# EAGLE library part DRV8825 (library X893)
STEPPER MOTOR CONTROLLER IC http://www.ti.com/product/drv8825
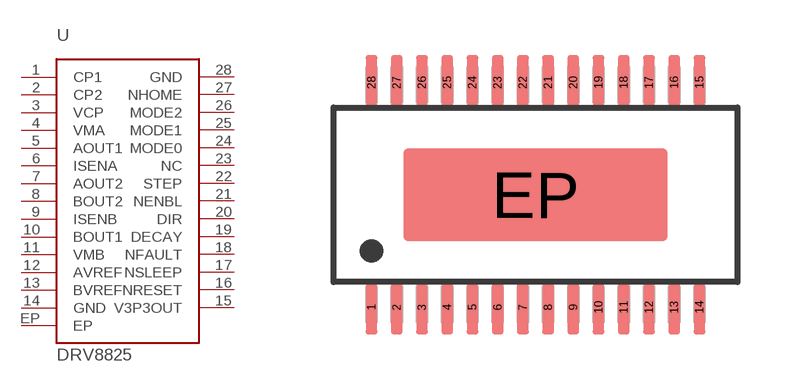
[diagram p187: symbol with the pads of SSOP28EP; footprint SSOP28EP]

Designator prefix U

## DRV8825  [SSOP28EP]
1  CP1  pas
2  CP2  pas
3  VCP  pas
4  VMA  pas
5  AOUT1  pas
6  ISENA  pas
7  AOUT2  pwr
8  BOUT2  pas
9  ISENB  pas
10  BOUT1  pas
11  VMB  pas
12  AVREF  pas
13  BVREF  pas
14  GND  pwr
15  V3P3OUT
16  NRESET  in
17  NSLEEP  in
18  NFAULT  oc
19  DECAY  in
20  DIR  in
21  NENBL  in
22  STEP  in
23  NC  nc
24  MODE0  in
25  MODE1  in
26  MODE2  in
27  NHOME  oc
28  GND  pwr
EP  EP  pwr

## Footprint SSOP28EP (pad centres in mm)
Small Shrink Outline Package
smd 0.3 x 1.4: 1 -4.225,-2.9; 2 -3.575,-2.9; 3 -2.925,-2.9; 4 -2.275,-2.9; 5 -1.625,-2.9; 6 -0.975,-2.9; 7 -0.325,-2.9; 8 0.325,-2.9; 9 0.975,-2.9; 10 1.625,-2.9; 11 2.275,-2.9; 12 2.925,-2.9; 13 3.575,-2.9; 14 4.225,-2.9; 15 4.225,2.9; 16 3.575,2.9; 17 2.925,2.9; 18 2.275,2.9; 19 1.625,2.9; 20 0.975,2.9; 21 0.325,2.9; 22 -0.325,2.9; 23 -0.975,2.9; 24 -1.625,2.9; 25 -2.275,2.9; 26 -2.925,2.9; 27 -3.575,2.9; 28 -4.225,2.9
smd 6.8 x 2.4: EP 0,0